# EAGLE library part MMA8491Q (library sensors)
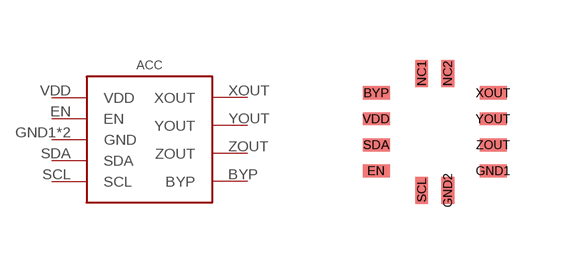
[diagram p0: symbol with the pads of QFN12; footprint QFN12]

Designator prefix -

## MMA8491Q  [QFN12]
BYP  BYP
EN  EN
GND1  GND
GND2  GND
SCL  SCL
SDA  SDA
VDD  VDD
XOUT  XOUT
YOUT  YOUT
ZOUT  ZOUT

## Footprint QFN12 (pad centres in mm)
smd 0.675 x 0.325: BYP -1.462,0.975; EN -1.462,-0.975; GND1 1.462,-0.975; SDA -1.462,-0.325; VDD -1.462,0.325; XOUT 1.462,0.975; YOUT 1.462,0.325; ZOUT 1.462,-0.325
smd 0.325 x 0.675: GND2 0.325,-1.462; NC1 -0.325,1.462; NC2 0.325,1.462; SCL -0.325,-1.462